# EAGLE library part ADXRS_BREAKOUT_HEADER (library m_connector)
ADXRS Breakout Header Standard 7-pin 0.1" header used with SparkFun Electronics' ADXRS series breakout boards.
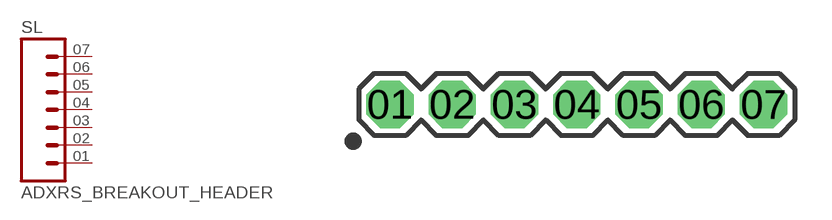
[diagram p1: symbol with the pads of 1X07; footprint 1X07]

Designator prefix SL

## ADXRS_BREAKOUT_HEADER  [1X07]
01  VCC  pwr
02  GND  pwr
03  RATEOUT
04  2.5V
05  TEMP
06  ST2
07  ST1

## Footprint 1X07 (pad centres in mm)
drill 1.016 pad 1.93 octagon: 01 0,0; 02 2.54,0; 03 5.08,0; 04 7.62,0; 05 10.16,0; 06 12.7,0; 07 15.24,0